# Altium footprint library MABA-007681-CT2010.PcbLib: 1 footprints
Each footprint in its own frame and in the unit in brackets; x right, y up, seen from the top. Pads: shape width x height; smd on the part's side, far side on the other; paste and mask are expansions set on the pad; w line width, h text height; cw(c..) or ccw(c..) is an arc to the next point about the centre after c.
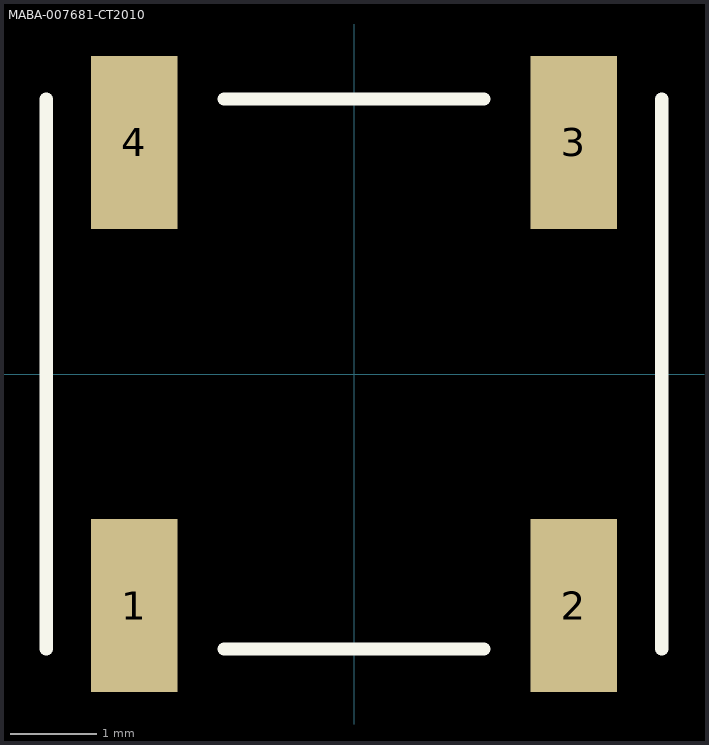
[diagram p0: the footprint, top view; thin cyan lines are the x and y axes]

## MABA-007681-CT2010 [mm]
height 3.33
pads (4):
  rect 1x2 smd: 1(-2.54,-2.675) 2(2.54,-2.675) 3(2.54,2.675) 4(-2.54,2.675)
Top Overlay:
  lines w0.152: -3.555,-3.175 -3.555,3.175 ; -1.5,-3.175 1.5,-3.175 ; -1.5,3.175 1.5,3.175 ; 3.555,-3.175 3.555,3.175